# Altium footprint library lib_inductors.PcbLib: 1 footprints
Each footprint in its own frame and in the unit in brackets; x right, y up, seen from the top. Pads: shape width x height; smd on the part's side, far side on the other; paste and mask are expansions set on the pad; w line width, h text height; cw(c..) or ccw(c..) is an arc to the next point about the centre after c.
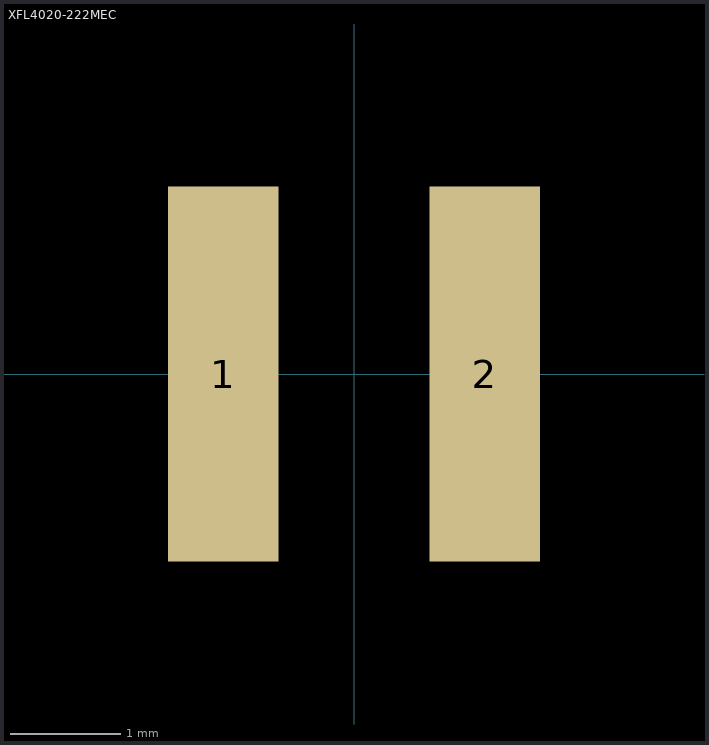
[diagram p0: the footprint, top view; thin cyan lines are the x and y axes]

## XFL4020-222MEC [mm]
pads (2):
  rect 1x3.4 smd: 1(-1.185,0) 2(1.185,0)
3D body: height 0.25, standoff 0, extent 0,0 0,0
3D body "inductor.stp": height 2.1, standoff 0, extent -1.994,-2 2.006,2